# Altium integrated library Linear Technology PMIC-Switching Reg LT1074-LT8705.IntLib: 2252 symbols (part 102 of 124)
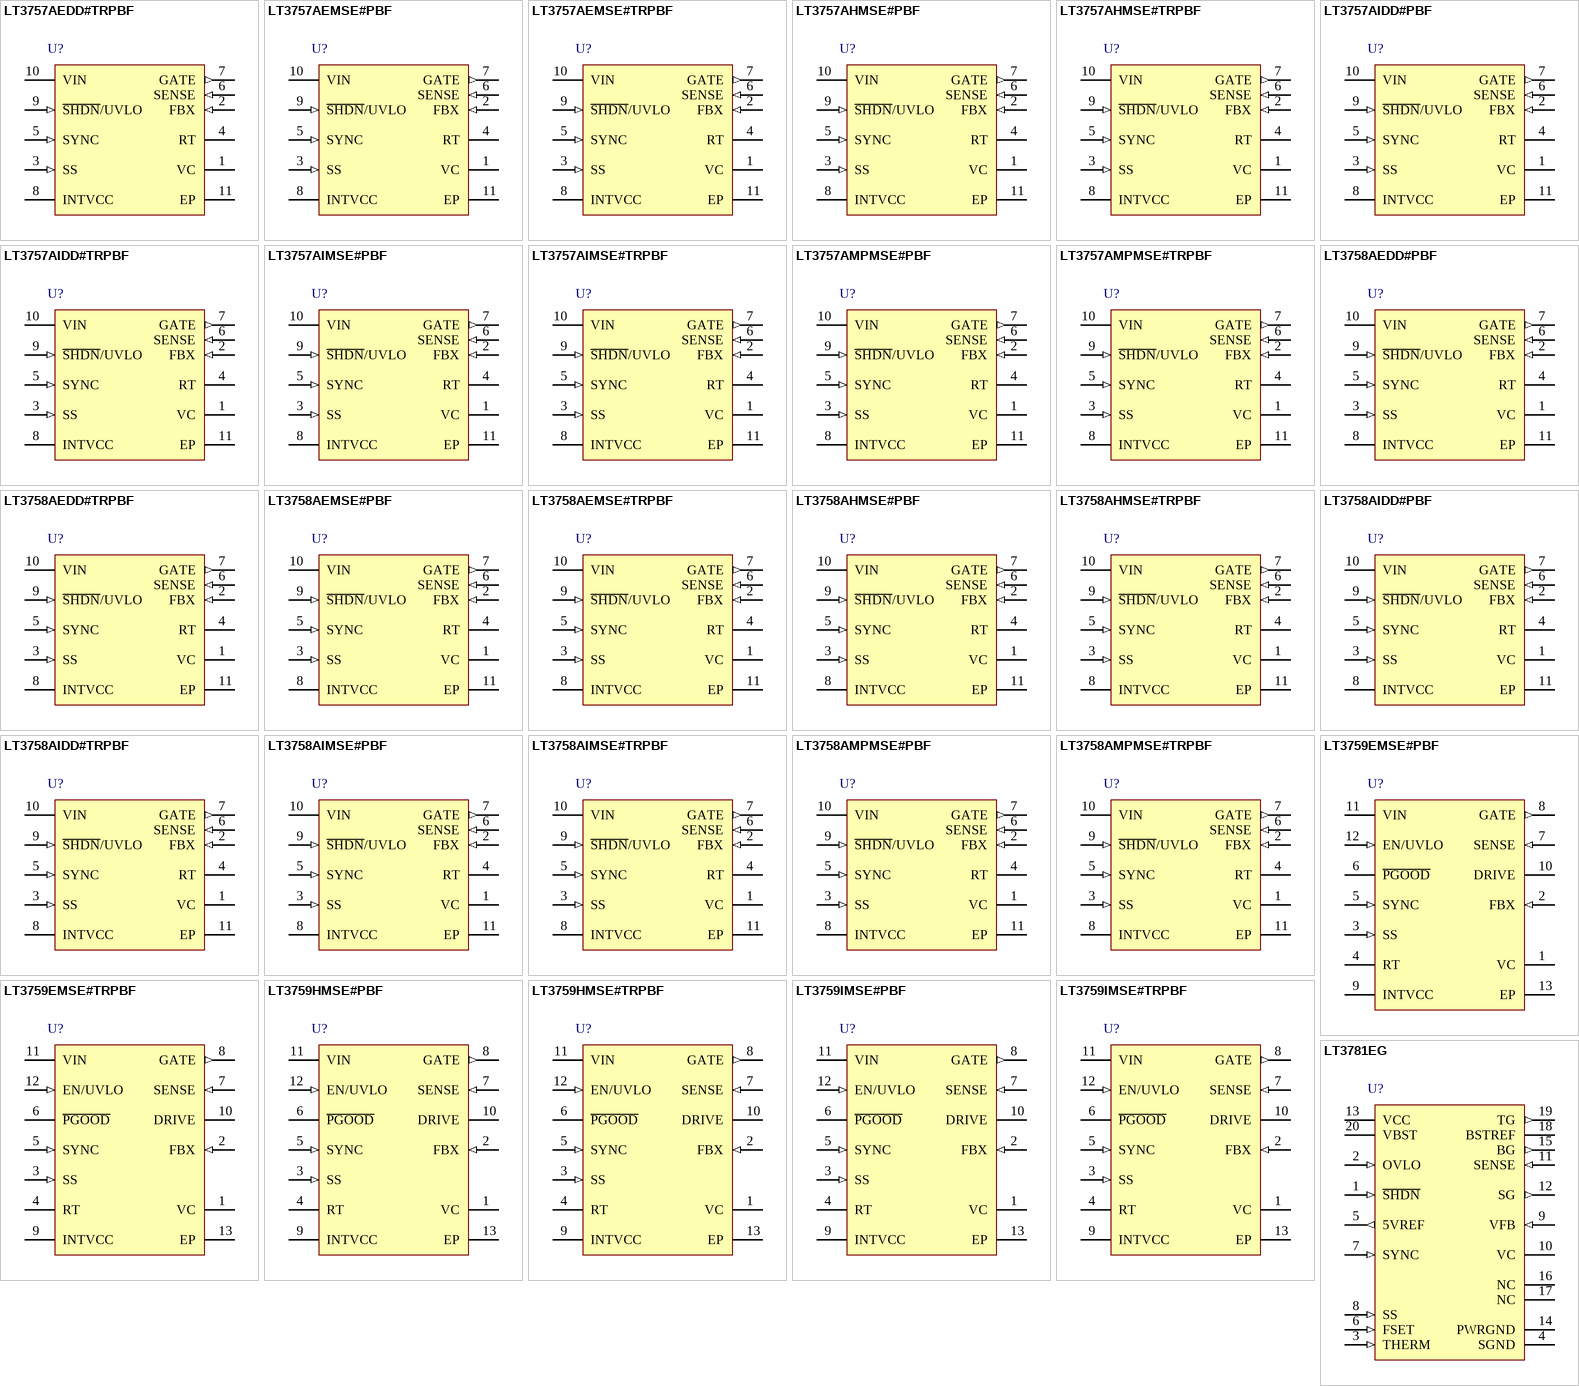
[diagram p172: symbols LT3757AEDD#TRPBF to LT3781EG]

## LT3759IMSE#PBF
designator U?
Wide Input Voltage Range Boost / SEPIC / Inverting Controller, 12-pin SOP (MSE-12-EDP), -40 to 125 degC, Pb-Free; Manufacturer: Linear Technology; PartNumber: LT3759IMSE#PBF; Number of Outputs: 1; PackageReference: MSE-12-EDP; PackageDescription: 12-Pin Plastic MSOP, Exposed Die Pad, Body 4.039 x 3 mm, Pitch 0.65 mm; Supplier 1: Digi-Key; Supplier Part Number 1: LT3759IMSE#PBF-ND; RoHS: TRUE
footprint LT-MSE-12-EDP_N (SOP, 12-Leads, Body 4.1x3.1mm, Pitch 0.65mm, Thermal Pad 2.95x1.76mm, IPC Medium Density)
footprint LT-MSE-12-EDP_L (SOP, 12-Leads, Body 4.1x3.1mm, Pitch 0.65mm, Thermal Pad 2.95x1.76mm, IPC High Density)
footprint LT-MSE-12-EDP_M (SOP, 12-Leads, Body 4.1x3.1mm, Pitch 0.65mm, Thermal Pad 2.95x1.76mm, IPC Low Density)
pins: 1 VC "Error Amplifier Compensation Pin. Used to stabilize the voltage loop with an external RC network.", 2 FBX (in) "Voltage Regulation Feedback Pin for Positive or Negative Outputs. Connect this pin to a resistor divider between the output and GND. FBX is the input of two error amplifiers-one configured to regulate a positive output; the (See Datasheet)", 3 SS (in) "Soft-Start Pin. This pin modulates compensation pin voltage (VC) clamp. The soft-start interval is set with an external capacitor. The pin has a 10uA (typical) pull-up current source to an internal 2.5V rail. The soft-start (See Datasheet)", 4 RT "Switching Frequency Adjustment Pin. Set the frequency using a resistor to GND. Do not leave the RT pin open.", 5 SYNC (in) "Frequency Synchronization Pin. Used to synchronize the internal oscillator to an outside clock. If this feature is used, an RT resistor should be chosen to program a switching frequency 20% slower than SYNC pulse frequency. (See Datasheet)", 6 ~{PGOOD} (oc) "Output Ready Status Pin. An open-collector pull down on P\G\O\O\D\ asserts when INTVCC is greater than 2.7V and the FBX voltage is within 5% (80mV if VFBX = 1.6V or 40mV if VFBX = -0.8V) of the regulation voltage.", 7 SENSE (in) "The Current Sense Input for the Control Loop. Kelvin connect this pin to the positive terminal of the switch current sense resistor in the source of the N-FET. The negative terminal of the current sense resistor should be (See Datasheet)", 8 GATE (out) "N-Channel FET Gate Driver Output. Switches between INTVCC and GND. Driven to GND when IC is shut down, during thermal lockout or when INTVCC is below undervoltage threshold.", 9 INTVCC (power) "Regulated Supply for Internal Loads and Gate Driver. Regulated to 4.75V if powered from DRIVE or regulated to 3.75V if powered from VIN. The INTVCC pin must be bypassed with a minimum of 4.7uF capacitor placed close to the (See Datasheet)", 10 DRIVE (power) "DRIVE LDO Supply Pin. This pin can be connected to either VIN or a quasi-regulated voltage supply such as a DC converter output. This pin must be bypassed with a minimum of 1uF capacitor placed close to the pin. Tie this pin (See Datasheet)", 11 VIN (power) "Supply Pin for Internal Leads and the VIN LDO Regulator of INTVCC. Must be locally bypassed with a minimum of 1uF capacitor placed close to this pin.", 12 EN/UVLO (in) "Shutdown and Undervoltage Detect Pin. An accurate 1.22V (nominal) falling threshold with externally programmable hysteresis detects when power is okay to enable switching. Rising hysteresis is generated by the external (See Datasheet)", 13 EP (power) "Exposed Pad. Solder the exposed pad directly to ground plane."

## LT3759IMSE#TRPBF
designator U?
Wide Input Voltage Range Boost / SEPIC / Inverting Controller, 12-pin SOP (MSE-12-EDP), -40 to 125 degC, Pb-Free, Tape and Reel; Manufacturer: Linear Technology; PartNumber: LT3759IMSE#TRPBF; Number of Outputs: 1; PackageReference: MSE-12-EDP; PackageDescription: 12-Pin Plastic MSOP, Exposed Die Pad, Body 4.039 x 3 mm, Pitch 0.65 mm; Supplier 1: Digi-Key; Supplier Part Number 1: LT3759IMSE#TRPBF-ND; RoHS: TRUE
footprint LT-MSE-12-EDP_N (SOP, 12-Leads, Body 4.1x3.1mm, Pitch 0.65mm, Thermal Pad 2.95x1.76mm, IPC Medium Density)
footprint LT-MSE-12-EDP_L (SOP, 12-Leads, Body 4.1x3.1mm, Pitch 0.65mm, Thermal Pad 2.95x1.76mm, IPC High Density)
footprint LT-MSE-12-EDP_M (SOP, 12-Leads, Body 4.1x3.1mm, Pitch 0.65mm, Thermal Pad 2.95x1.76mm, IPC Low Density)
pins: 1 VC "Error Amplifier Compensation Pin. Used to stabilize the voltage loop with an external RC network.", 2 FBX (in) "Voltage Regulation Feedback Pin for Positive or Negative Outputs. Connect this pin to a resistor divider between the output and GND. FBX is the input of two error amplifiers-one configured to regulate a positive output; the (See Datasheet)", 3 SS (in) "Soft-Start Pin. This pin modulates compensation pin voltage (VC) clamp. The soft-start interval is set with an external capacitor. The pin has a 10uA (typical) pull-up current source to an internal 2.5V rail. The soft-start (See Datasheet)", 4 RT "Switching Frequency Adjustment Pin. Set the frequency using a resistor to GND. Do not leave the RT pin open.", 5 SYNC (in) "Frequency Synchronization Pin. Used to synchronize the internal oscillator to an outside clock. If this feature is used, an RT resistor should be chosen to program a switching frequency 20% slower than SYNC pulse frequency. (See Datasheet)", 6 ~{PGOOD} (oc) "Output Ready Status Pin. An open-collector pull down on P\G\O\O\D\ asserts when INTVCC is greater than 2.7V and the FBX voltage is within 5% (80mV if VFBX = 1.6V or 40mV if VFBX = -0.8V) of the regulation voltage.", 7 SENSE (in) "The Current Sense Input for the Control Loop. Kelvin connect this pin to the positive terminal of the switch current sense resistor in the source of the N-FET. The negative terminal of the current sense resistor should be (See Datasheet)", 8 GATE (out) "N-Channel FET Gate Driver Output. Switches between INTVCC and GND. Driven to GND when IC is shut down, during thermal lockout or when INTVCC is below undervoltage threshold.", 9 INTVCC (power) "Regulated Supply for Internal Loads and Gate Driver. Regulated to 4.75V if powered from DRIVE or regulated to 3.75V if powered from VIN. The INTVCC pin must be bypassed with a minimum of 4.7uF capacitor placed close to the (See Datasheet)", 10 DRIVE (power) "DRIVE LDO Supply Pin. This pin can be connected to either VIN or a quasi-regulated voltage supply such as a DC converter output. This pin must be bypassed with a minimum of 1uF capacitor placed close to the pin. Tie this pin (See Datasheet)", 11 VIN (power) "Supply Pin for Internal Leads and the VIN LDO Regulator of INTVCC. Must be locally bypassed with a minimum of 1uF capacitor placed close to this pin.", 12 EN/UVLO (in) "Shutdown and Undervoltage Detect Pin. An accurate 1.22V (nominal) falling threshold with externally programmable hysteresis detects when power is okay to enable switching. Rising hysteresis is generated by the external (See Datasheet)", 13 EP (power) "Exposed Pad. Solder the exposed pad directly to ground plane."

## LT3781EG
designator U?
Bootstrap Start Dual Transistor Synchronous Forward Controller, 20-pin SOP (G-20), -40 to 85 degC; Manufacturer: Linear Technology; PartNumber: LT3781EG; Number of Outputs: 1; PackageReference: G-20; PackageDescription: 20-Pin Plastic SSOP, Body 7.2 x 5.3 mm, Pitch 0.65 mm; Supplier 1: Digi-Key; Supplier Part Number 1: LT3781EG-ND; RoHS: FALSE
footprint LT-G-20_N (SOP, 20-Leads, Body 7.2x5.3mm, Pitch 0.65mm, IPC Medium Density)
footprint LT-G-20_L (SOP, 20-Leads, Body 7.2x5.3mm, Pitch 0.65mm, IPC High Density)
footprint LT-G-20_M (SOP, 20-Leads, Body 7.2x5.3mm, Pitch 0.65mm, IPC Low Density)
pins: 1 ~{SHDN} (in) "Shutdown Pin. Pin voltages exceeding positive going threshold of 1.25V enables the LT3781. 150mV of input hysteresis resists mode switching instability.", 2 OVLO (in) "Overvoltage Shutdown Sense. Typically connected to input supply through a resistor divider. If pin voltage exceeds 1.25V, LT3781 switching function is disabled to protect boosted circuitry from exceeding absolute maximum (See Datasheet)", 3 THERM (in) "System Thermal Shutdown. Auxiliary shutdown pin that is typically used for system thermal protection. If pin voltage exceeds 1.25V, LT3781 switching function is disabled. 40mV of input hysteresis resists mode switching (See Datasheet)", 4 SGND (power) "Signal Ground Reference. Careful board layout techniques must be used to prevent corruption of signal ground reference. High-current switching paths must be oriented on the converter ground plane such that currents to/from (See Datasheet)", 5 5VREF (out) "5V Local Reference. Allows connection of external loads up to 20mA DC. Typically bypassed with 1uF ceramic capacitor to SGND. Reference output is current limit protected to a typical value of 45mA. If the load on the 5V (See Datasheet)", 6 FSET (in) "Oscillator Timing Pin. Connect a resistor (RFSET) from the 5VREF pin to this pin and a capacitor (CFSET) from this pin to ground.", 7 SYNC (in) "Oscillator Synchronization Input Pin with TTL-Level Compatible Input. The SYNC input signal (at the desired synchronized operating frequency) controls both the internal oscillator (running at twice the SYNC frequency) and (See Datasheet)", 8 SS (in) "Soft-Start. Connect a capacitor (CSS) from this pin to ground.", 9 VFB (in) "Error Amplifier Inverting Input. Typically connected to a resistor divider from the output and compensation components to the VC pin.", 10 VC "Error Amplifier Output. The LT3781 error amplifier is a low impedance output inverting gain stage. The amplifier has ample current source capability to allow easy integration of isolation optocouplers that require bias (See Datasheet)", 11 SENSE (in) "Current Sense Amplifier (CSA) Noninverting Input. Current is monitored via a ground referenced current sense resistor, typically in series withthe source of the bottom side switch FET. Internal current limit circuitry (See Datasheet)", 12 SG (out) "Synchronous Switch Output Driver. This pin can be connected directly to gate of synchronous switch if small FETs are used (CGATE < 5000pF), however, the use of a gate drive buffer is recommended for peak efficiencies.", 13 VCC (power) "IC Local Power Supply Input. Bypass with at a capacitor at least 10 times greater than C5VREF. LT3781 incorporates undervoltage lockout that disables switching functions if VCC is below 8.4V. The LT3781 supports operational (See Datasheet)", 14 PWRGND (power) "Output Driver Ground Reference. Connect through low impedance trace to VIN decoupling capacitor.", 15 BG (out) "Bottom Side Primary Switch/Forward Switch Output Driver. This pin can be connected directly to ngate(s) of primary bottom side and forward switches if small FETs are used (CGATE total < 5000pF), however, the use of a gate (See Datasheet)", 16 NC, 17 NC, 18 BSTREF (power) "VBST Supply Reference. Typically connects to source of topside external power FET switch.", 19 TG (out) "Topside (Boosted) Primary Output Driver. This pin can be connected directly to gate of primary topside switch if small FETs are used (CGATE < 5000pF), however, the use of a gate drive buffer is recommended for peak (See Datasheet)", 20 VBST (power) "Topside Primary Driver Bootstrapped Supply. This “boosted” supply rail is referenced to the BSTREF pin."

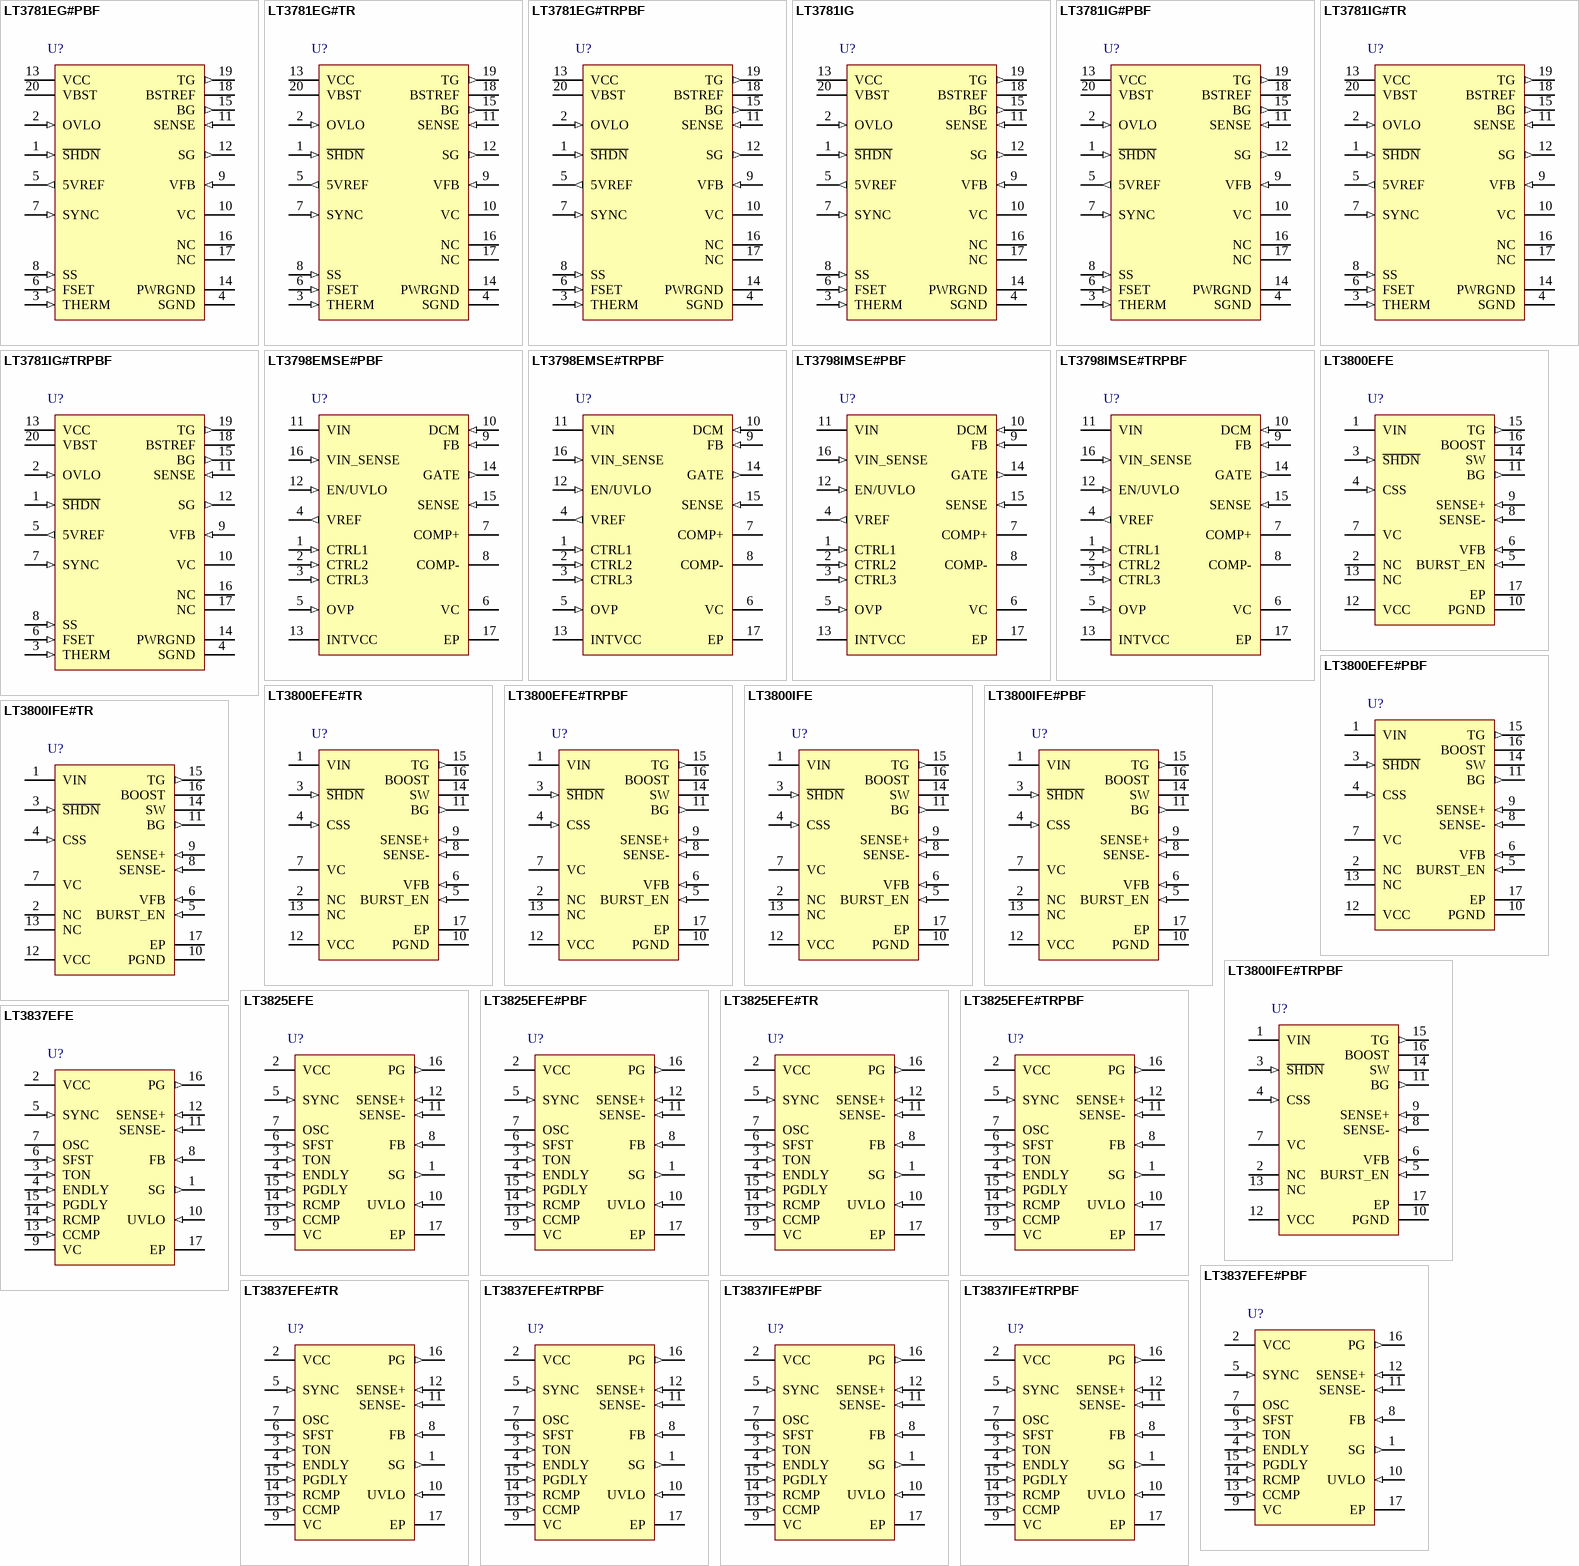
[diagram p59: symbols LT3781EG#PBF to LT3837IFE#TRPBF]

## LT3781EG#PBF
designator U?
Bootstrap Start Dual Transistor Synchronous Forward Controller, 20-pin SOP (G-20), -40 to 85 degC, Pb-Free; Manufacturer: Linear Technology; PartNumber: LT3781EG#PBF; Number of Outputs: 1; PackageReference: G-20; PackageDescription: 20-Pin Plastic SSOP, Body 7.2 x 5.3 mm, Pitch 0.65 mm; Supplier 1: Digi-Key; Supplier Part Number 1: LT3781EG#PBF-ND; RoHS: TRUE
footprint LT-G-20_N (SOP, 20-Leads, Body 7.2x5.3mm, Pitch 0.65mm, IPC Medium Density)
footprint LT-G-20_L (SOP, 20-Leads, Body 7.2x5.3mm, Pitch 0.65mm, IPC High Density)
footprint LT-G-20_M (SOP, 20-Leads, Body 7.2x5.3mm, Pitch 0.65mm, IPC Low Density)
pins: 1 ~{SHDN} (in) "Shutdown Pin. Pin voltages exceeding positive going threshold of 1.25V enables the LT3781. 150mV of input hysteresis resists mode switching instability.", 2 OVLO (in) "Overvoltage Shutdown Sense. Typically connected to input supply through a resistor divider. If pin voltage exceeds 1.25V, LT3781 switching function is disabled to protect boosted circuitry from exceeding absolute maximum (See Datasheet)", 3 THERM (in) "System Thermal Shutdown. Auxiliary shutdown pin that is typically used for system thermal protection. If pin voltage exceeds 1.25V, LT3781 switching function is disabled. 40mV of input hysteresis resists mode switching (See Datasheet)", 4 SGND (power) "Signal Ground Reference. Careful board layout techniques must be used to prevent corruption of signal ground reference. High-current switching paths must be oriented on the converter ground plane such that currents to/from (See Datasheet)", 5 5VREF (out) "5V Local Reference. Allows connection of external loads up to 20mA DC. Typically bypassed with 1uF ceramic capacitor to SGND. Reference output is current limit protected to a typical value of 45mA. If the load on the 5V (See Datasheet)", 6 FSET (in) "Oscillator Timing Pin. Connect a resistor (RFSET) from the 5VREF pin to this pin and a capacitor (CFSET) from this pin to ground.", 7 SYNC (in) "Oscillator Synchronization Input Pin with TTL-Level Compatible Input. The SYNC input signal (at the desired synchronized operating frequency) controls both the internal oscillator (running at twice the SYNC frequency) and (See Datasheet)", 8 SS (in) "Soft-Start. Connect a capacitor (CSS) from this pin to ground.", 9 VFB (in) "Error Amplifier Inverting Input. Typically connected to a resistor divider from the output and compensation components to the VC pin.", 10 VC "Error Amplifier Output. The LT3781 error amplifier is a low impedance output inverting gain stage. The amplifier has ample current source capability to allow easy integration of isolation optocouplers that require bias (See Datasheet)", 11 SENSE (in) "Current Sense Amplifier (CSA) Noninverting Input. Current is monitored via a ground referenced current sense resistor, typically in series withthe source of the bottom side switch FET. Internal current limit circuitry (See Datasheet)", 12 SG (out) "Synchronous Switch Output Driver. This pin can be connected directly to gate of synchronous switch if small FETs are used (CGATE < 5000pF), however, the use of a gate drive buffer is recommended for peak efficiencies.", 13 VCC (power) "IC Local Power Supply Input. Bypass with at a capacitor at least 10 times greater than C5VREF. LT3781 incorporates undervoltage lockout that disables switching functions if VCC is below 8.4V. The LT3781 supports operational (See Datasheet)", 14 PWRGND (power) "Output Driver Ground Reference. Connect through low impedance trace to VIN decoupling capacitor.", 15 BG (out) "Bottom Side Primary Switch/Forward Switch Output Driver. This pin can be connected directly to ngate(s) of primary bottom side and forward switches if small FETs are used (CGATE total < 5000pF), however, the use of a gate (See Datasheet)", 16 NC, 17 NC, 18 BSTREF (power) "VBST Supply Reference. Typically connects to source of topside external power FET switch.", 19 TG (out) "Topside (Boosted) Primary Output Driver. This pin can be connected directly to gate of primary topside switch if small FETs are used (CGATE < 5000pF), however, the use of a gate drive buffer is recommended for peak (See Datasheet)", 20 VBST (power) "Topside Primary Driver Bootstrapped Supply. This “boosted” supply rail is referenced to the BSTREF pin."

## LT3781EG#TR
designator U?
Bootstrap Start Dual Transistor Synchronous Forward Controller, 20-pin SOP (G-20), -40 to 85 degC, Tape and Reel; Manufacturer: Linear Technology; PartNumber: LT3781EG#TR; Number of Outputs: 1; PackageReference: G-20; PackageDescription: 20-Pin Plastic SSOP, Body 7.2 x 5.3 mm, Pitch 0.65 mm; Supplier 1: Digi-Key; Supplier Part Number 1: LT3781EG#TR-ND; RoHS: FALSE
footprint LT-G-20_N (SOP, 20-Leads, Body 7.2x5.3mm, Pitch 0.65mm, IPC Medium Density)
footprint LT-G-20_L (SOP, 20-Leads, Body 7.2x5.3mm, Pitch 0.65mm, IPC High Density)
footprint LT-G-20_M (SOP, 20-Leads, Body 7.2x5.3mm, Pitch 0.65mm, IPC Low Density)
pins: 1 ~{SHDN} (in) "Shutdown Pin. Pin voltages exceeding positive going threshold of 1.25V enables the LT3781. 150mV of input hysteresis resists mode switching instability.", 2 OVLO (in) "Overvoltage Shutdown Sense. Typically connected to input supply through a resistor divider. If pin voltage exceeds 1.25V, LT3781 switching function is disabled to protect boosted circuitry from exceeding absolute maximum (See Datasheet)", 3 THERM (in) "System Thermal Shutdown. Auxiliary shutdown pin that is typically used for system thermal protection. If pin voltage exceeds 1.25V, LT3781 switching function is disabled. 40mV of input hysteresis resists mode switching (See Datasheet)", 4 SGND (power) "Signal Ground Reference. Careful board layout techniques must be used to prevent corruption of signal ground reference. High-current switching paths must be oriented on the converter ground plane such that currents to/from (See Datasheet)", 5 5VREF (out) "5V Local Reference. Allows connection of external loads up to 20mA DC. Typically bypassed with 1uF ceramic capacitor to SGND. Reference output is current limit protected to a typical value of 45mA. If the load on the 5V (See Datasheet)", 6 FSET (in) "Oscillator Timing Pin. Connect a resistor (RFSET) from the 5VREF pin to this pin and a capacitor (CFSET) from this pin to ground.", 7 SYNC (in) "Oscillator Synchronization Input Pin with TTL-Level Compatible Input. The SYNC input signal (at the desired synchronized operating frequency) controls both the internal oscillator (running at twice the SYNC frequency) and (See Datasheet)", 8 SS (in) "Soft-Start. Connect a capacitor (CSS) from this pin to ground.", 9 VFB (in) "Error Amplifier Inverting Input. Typically connected to a resistor divider from the output and compensation components to the VC pin.", 10 VC "Error Amplifier Output. The LT3781 error amplifier is a low impedance output inverting gain stage. The amplifier has ample current source capability to allow easy integration of isolation optocouplers that require bias (See Datasheet)", 11 SENSE (in) "Current Sense Amplifier (CSA) Noninverting Input. Current is monitored via a ground referenced current sense resistor, typically in series withthe source of the bottom side switch FET. Internal current limit circuitry (See Datasheet)", 12 SG (out) "Synchronous Switch Output Driver. This pin can be connected directly to gate of synchronous switch if small FETs are used (CGATE < 5000pF), however, the use of a gate drive buffer is recommended for peak efficiencies.", 13 VCC (power) "IC Local Power Supply Input. Bypass with at a capacitor at least 10 times greater than C5VREF. LT3781 incorporates undervoltage lockout that disables switching functions if VCC is below 8.4V. The LT3781 supports operational (See Datasheet)", 14 PWRGND (power) "Output Driver Ground Reference. Connect through low impedance trace to VIN decoupling capacitor.", 15 BG (out) "Bottom Side Primary Switch/Forward Switch Output Driver. This pin can be connected directly to ngate(s) of primary bottom side and forward switches if small FETs are used (CGATE total < 5000pF), however, the use of a gate (See Datasheet)", 16 NC, 17 NC, 18 BSTREF (power) "VBST Supply Reference. Typically connects to source of topside external power FET switch.", 19 TG (out) "Topside (Boosted) Primary Output Driver. This pin can be connected directly to gate of primary topside switch if small FETs are used (CGATE < 5000pF), however, the use of a gate drive buffer is recommended for peak (See Datasheet)", 20 VBST (power) "Topside Primary Driver Bootstrapped Supply. This “boosted” supply rail is referenced to the BSTREF pin."

## LT3781EG#TRPBF
designator U?
Bootstrap Start Dual Transistor Synchronous Forward Controller, 20-pin SOP (G-20), -40 to 85 degC, Pb-Free, Tape and Reel; Manufacturer: Linear Technology; PartNumber: LT3781EG#TRPBF; Number of Outputs: 1; PackageReference: G-20; PackageDescription: 20-Pin Plastic SSOP, Body 7.2 x 5.3 mm, Pitch 0.65 mm; Supplier 1: Digi-Key; Supplier Part Number 1: LT3781EG#TRPBF-ND; RoHS: TRUE
footprint LT-G-20_N (SOP, 20-Leads, Body 7.2x5.3mm, Pitch 0.65mm, IPC Medium Density)
footprint LT-G-20_L (SOP, 20-Leads, Body 7.2x5.3mm, Pitch 0.65mm, IPC High Density)
footprint LT-G-20_M (SOP, 20-Leads, Body 7.2x5.3mm, Pitch 0.65mm, IPC Low Density)
pins: 1 ~{SHDN} (in) "Shutdown Pin. Pin voltages exceeding positive going threshold of 1.25V enables the LT3781. 150mV of input hysteresis resists mode switching instability.", 2 OVLO (in) "Overvoltage Shutdown Sense. Typically connected to input supply through a resistor divider. If pin voltage exceeds 1.25V, LT3781 switching function is disabled to protect boosted circuitry from exceeding absolute maximum (See Datasheet)", 3 THERM (in) "System Thermal Shutdown. Auxiliary shutdown pin that is typically used for system thermal protection. If pin voltage exceeds 1.25V, LT3781 switching function is disabled. 40mV of input hysteresis resists mode switching (See Datasheet)", 4 SGND (power) "Signal Ground Reference. Careful board layout techniques must be used to prevent corruption of signal ground reference. High-current switching paths must be oriented on the converter ground plane such that currents to/from (See Datasheet)", 5 5VREF (out) "5V Local Reference. Allows connection of external loads up to 20mA DC. Typically bypassed with 1uF ceramic capacitor to SGND. Reference output is current limit protected to a typical value of 45mA. If the load on the 5V (See Datasheet)", 6 FSET (in) "Oscillator Timing Pin. Connect a resistor (RFSET) from the 5VREF pin to this pin and a capacitor (CFSET) from this pin to ground.", 7 SYNC (in) "Oscillator Synchronization Input Pin with TTL-Level Compatible Input. The SYNC input signal (at the desired synchronized operating frequency) controls both the internal oscillator (running at twice the SYNC frequency) and (See Datasheet)", 8 SS (in) "Soft-Start. Connect a capacitor (CSS) from this pin to ground.", 9 VFB (in) "Error Amplifier Inverting Input. Typically connected to a resistor divider from the output and compensation components to the VC pin.", 10 VC "Error Amplifier Output. The LT3781 error amplifier is a low impedance output inverting gain stage. The amplifier has ample current source capability to allow easy integration of isolation optocouplers that require bias (See Datasheet)", 11 SENSE (in) "Current Sense Amplifier (CSA) Noninverting Input. Current is monitored via a ground referenced current sense resistor, typically in series withthe source of the bottom side switch FET. Internal current limit circuitry (See Datasheet)", 12 SG (out) "Synchronous Switch Output Driver. This pin can be connected directly to gate of synchronous switch if small FETs are used (CGATE < 5000pF), however, the use of a gate drive buffer is recommended for peak efficiencies.", 13 VCC (power) "IC Local Power Supply Input. Bypass with at a capacitor at least 10 times greater than C5VREF. LT3781 incorporates undervoltage lockout that disables switching functions if VCC is below 8.4V. The LT3781 supports operational (See Datasheet)", 14 PWRGND (power) "Output Driver Ground Reference. Connect through low impedance trace to VIN decoupling capacitor.", 15 BG (out) "Bottom Side Primary Switch/Forward Switch Output Driver. This pin can be connected directly to ngate(s) of primary bottom side and forward switches if small FETs are used (CGATE total < 5000pF), however, the use of a gate (See Datasheet)", 16 NC, 17 NC, 18 BSTREF (power) "VBST Supply Reference. Typically connects to source of topside external power FET switch.", 19 TG (out) "Topside (Boosted) Primary Output Driver. This pin can be connected directly to gate of primary topside switch if small FETs are used (CGATE < 5000pF), however, the use of a gate drive buffer is recommended for peak (See Datasheet)", 20 VBST (power) "Topside Primary Driver Bootstrapped Supply. This “boosted” supply rail is referenced to the BSTREF pin."

## LT3781IG
designator U?
Bootstrap Start Dual Transistor Synchronous Forward Controller, 20-pin SOP (G-20), -40 to 85 degC; Manufacturer: Linear Technology; PartNumber: LT3781IG; Number of Outputs: 1; PackageReference: G-20; PackageDescription: 20-Pin Plastic SSOP, Body 7.2 x 5.3 mm, Pitch 0.65 mm; Supplier 1: Digi-Key; Supplier Part Number 1: LT3781IG-ND; RoHS: FALSE
footprint LT-G-20_N (SOP, 20-Leads, Body 7.2x5.3mm, Pitch 0.65mm, IPC Medium Density)
footprint LT-G-20_L (SOP, 20-Leads, Body 7.2x5.3mm, Pitch 0.65mm, IPC High Density)
footprint LT-G-20_M (SOP, 20-Leads, Body 7.2x5.3mm, Pitch 0.65mm, IPC Low Density)
pins: 1 ~{SHDN} (in) "Shutdown Pin. Pin voltages exceeding positive going threshold of 1.25V enables the LT3781. 150mV of input hysteresis resists mode switching instability.", 2 OVLO (in) "Overvoltage Shutdown Sense. Typically connected to input supply through a resistor divider. If pin voltage exceeds 1.25V, LT3781 switching function is disabled to protect boosted circuitry from exceeding absolute maximum (See Datasheet)", 3 THERM (in) "System Thermal Shutdown. Auxiliary shutdown pin that is typically used for system thermal protection. If pin voltage exceeds 1.25V, LT3781 switching function is disabled. 40mV of input hysteresis resists mode switching (See Datasheet)", 4 SGND (power) "Signal Ground Reference. Careful board layout techniques must be used to prevent corruption of signal ground reference. High-current switching paths must be oriented on the converter ground plane such that currents to/from (See Datasheet)", 5 5VREF (out) "5V Local Reference. Allows connection of external loads up to 20mA DC. Typically bypassed with 1uF ceramic capacitor to SGND. Reference output is current limit protected to a typical value of 45mA. If the load on the 5V (See Datasheet)", 6 FSET (in) "Oscillator Timing Pin. Connect a resistor (RFSET) from the 5VREF pin to this pin and a capacitor (CFSET) from this pin to ground.", 7 SYNC (in) "Oscillator Synchronization Input Pin with TTL-Level Compatible Input. The SYNC input signal (at the desired synchronized operating frequency) controls both the internal oscillator (running at twice the SYNC frequency) and (See Datasheet)", 8 SS (in) "Soft-Start. Connect a capacitor (CSS) from this pin to ground.", 9 VFB (in) "Error Amplifier Inverting Input. Typically connected to a resistor divider from the output and compensation components to the VC pin.", 10 VC "Error Amplifier Output. The LT3781 error amplifier is a low impedance output inverting gain stage. The amplifier has ample current source capability to allow easy integration of isolation optocouplers that require bias (See Datasheet)", 11 SENSE (in) "Current Sense Amplifier (CSA) Noninverting Input. Current is monitored via a ground referenced current sense resistor, typically in series withthe source of the bottom side switch FET. Internal current limit circuitry (See Datasheet)", 12 SG (out) "Synchronous Switch Output Driver. This pin can be connected directly to gate of synchronous switch if small FETs are used (CGATE < 5000pF), however, the use of a gate drive buffer is recommended for peak efficiencies.", 13 VCC (power) "IC Local Power Supply Input. Bypass with at a capacitor at least 10 times greater than C5VREF. LT3781 incorporates undervoltage lockout that disables switching functions if VCC is below 8.4V. The LT3781 supports operational (See Datasheet)", 14 PWRGND (power) "Output Driver Ground Reference. Connect through low impedance trace to VIN decoupling capacitor.", 15 BG (out) "Bottom Side Primary Switch/Forward Switch Output Driver. This pin can be connected directly to ngate(s) of primary bottom side and forward switches if small FETs are used (CGATE total < 5000pF), however, the use of a gate (See Datasheet)", 16 NC, 17 NC, 18 BSTREF (power) "VBST Supply Reference. Typically connects to source of topside external power FET switch.", 19 TG (out) "Topside (Boosted) Primary Output Driver. This pin can be connected directly to gate of primary topside switch if small FETs are used (CGATE < 5000pF), however, the use of a gate drive buffer is recommended for peak (See Datasheet)", 20 VBST (power) "Topside Primary Driver Bootstrapped Supply. This “boosted” supply rail is referenced to the BSTREF pin."

## LT3781IG#PBF
designator U?
Bootstrap Start Dual Transistor Synchronous Forward Controller, 20-pin SOP (G-20), -40 to 85 degC, Pb-Free; Manufacturer: Linear Technology; PartNumber: LT3781IG#PBF; Number of Outputs: 1; PackageReference: G-20; PackageDescription: 20-Pin Plastic SSOP, Body 7.2 x 5.3 mm, Pitch 0.65 mm; Supplier 1: Digi-Key; Supplier Part Number 1: LT3781IG#PBF-ND; RoHS: TRUE
footprint LT-G-20_N (SOP, 20-Leads, Body 7.2x5.3mm, Pitch 0.65mm, IPC Medium Density)
footprint LT-G-20_L (SOP, 20-Leads, Body 7.2x5.3mm, Pitch 0.65mm, IPC High Density)
footprint LT-G-20_M (SOP, 20-Leads, Body 7.2x5.3mm, Pitch 0.65mm, IPC Low Density)
pins: 1 ~{SHDN} (in) "Shutdown Pin. Pin voltages exceeding positive going threshold of 1.25V enables the LT3781. 150mV of input hysteresis resists mode switching instability.", 2 OVLO (in) "Overvoltage Shutdown Sense. Typically connected to input supply through a resistor divider. If pin voltage exceeds 1.25V, LT3781 switching function is disabled to protect boosted circuitry from exceeding absolute maximum (See Datasheet)", 3 THERM (in) "System Thermal Shutdown. Auxiliary shutdown pin that is typically used for system thermal protection. If pin voltage exceeds 1.25V, LT3781 switching function is disabled. 40mV of input hysteresis resists mode switching (See Datasheet)", 4 SGND (power) "Signal Ground Reference. Careful board layout techniques must be used to prevent corruption of signal ground reference. High-current switching paths must be oriented on the converter ground plane such that currents to/from (See Datasheet)", 5 5VREF (out) "5V Local Reference. Allows connection of external loads up to 20mA DC. Typically bypassed with 1uF ceramic capacitor to SGND. Reference output is current limit protected to a typical value of 45mA. If the load on the 5V (See Datasheet)", 6 FSET (in) "Oscillator Timing Pin. Connect a resistor (RFSET) from the 5VREF pin to this pin and a capacitor (CFSET) from this pin to ground.", 7 SYNC (in) "Oscillator Synchronization Input Pin with TTL-Level Compatible Input. The SYNC input signal (at the desired synchronized operating frequency) controls both the internal oscillator (running at twice the SYNC frequency) and (See Datasheet)", 8 SS (in) "Soft-Start. Connect a capacitor (CSS) from this pin to ground.", 9 VFB (in) "Error Amplifier Inverting Input. Typically connected to a resistor divider from the output and compensation components to the VC pin.", 10 VC "Error Amplifier Output. The LT3781 error amplifier is a low impedance output inverting gain stage. The amplifier has ample current source capability to allow easy integration of isolation optocouplers that require bias (See Datasheet)", 11 SENSE (in) "Current Sense Amplifier (CSA) Noninverting Input. Current is monitored via a ground referenced current sense resistor, typically in series withthe source of the bottom side switch FET. Internal current limit circuitry (See Datasheet)", 12 SG (out) "Synchronous Switch Output Driver. This pin can be connected directly to gate of synchronous switch if small FETs are used (CGATE < 5000pF), however, the use of a gate drive buffer is recommended for peak efficiencies.", 13 VCC (power) "IC Local Power Supply Input. Bypass with at a capacitor at least 10 times greater than C5VREF. LT3781 incorporates undervoltage lockout that disables switching functions if VCC is below 8.4V. The LT3781 supports operational (See Datasheet)", 14 PWRGND (power) "Output Driver Ground Reference. Connect through low impedance trace to VIN decoupling capacitor.", 15 BG (out) "Bottom Side Primary Switch/Forward Switch Output Driver. This pin can be connected directly to ngate(s) of primary bottom side and forward switches if small FETs are used (CGATE total < 5000pF), however, the use of a gate (See Datasheet)", 16 NC, 17 NC, 18 BSTREF (power) "VBST Supply Reference. Typically connects to source of topside external power FET switch.", 19 TG (out) "Topside (Boosted) Primary Output Driver. This pin can be connected directly to gate of primary topside switch if small FETs are used (CGATE < 5000pF), however, the use of a gate drive buffer is recommended for peak (See Datasheet)", 20 VBST (power) "Topside Primary Driver Bootstrapped Supply. This “boosted” supply rail is referenced to the BSTREF pin."

## LT3781IG#TR
designator U?
Bootstrap Start Dual Transistor Synchronous Forward Controller, 20-pin SOP (G-20), -40 to 85 degC, Tape and Reel; Manufacturer: Linear Technology; PartNumber: LT3781IG#TR; Number of Outputs: 1; PackageReference: G-20; PackageDescription: 20-Pin Plastic SSOP, Body 7.2 x 5.3 mm, Pitch 0.65 mm; Supplier 1: Digi-Key; Supplier Part Number 1: LT3781IG#TR-ND; RoHS: FALSE
footprint LT-G-20_N (SOP, 20-Leads, Body 7.2x5.3mm, Pitch 0.65mm, IPC Medium Density)
footprint LT-G-20_L (SOP, 20-Leads, Body 7.2x5.3mm, Pitch 0.65mm, IPC High Density)
footprint LT-G-20_M (SOP, 20-Leads, Body 7.2x5.3mm, Pitch 0.65mm, IPC Low Density)
pins: 1 ~{SHDN} (in) "Shutdown Pin. Pin voltages exceeding positive going threshold of 1.25V enables the LT3781. 150mV of input hysteresis resists mode switching instability.", 2 OVLO (in) "Overvoltage Shutdown Sense. Typically connected to input supply through a resistor divider. If pin voltage exceeds 1.25V, LT3781 switching function is disabled to protect boosted circuitry from exceeding absolute maximum (See Datasheet)", 3 THERM (in) "System Thermal Shutdown. Auxiliary shutdown pin that is typically used for system thermal protection. If pin voltage exceeds 1.25V, LT3781 switching function is disabled. 40mV of input hysteresis resists mode switching (See Datasheet)", 4 SGND (power) "Signal Ground Reference. Careful board layout techniques must be used to prevent corruption of signal ground reference. High-current switching paths must be oriented on the converter ground plane such that currents to/from (See Datasheet)", 5 5VREF (out) "5V Local Reference. Allows connection of external loads up to 20mA DC. Typically bypassed with 1uF ceramic capacitor to SGND. Reference output is current limit protected to a typical value of 45mA. If the load on the 5V (See Datasheet)", 6 FSET (in) "Oscillator Timing Pin. Connect a resistor (RFSET) from the 5VREF pin to this pin and a capacitor (CFSET) from this pin to ground.", 7 SYNC (in) "Oscillator Synchronization Input Pin with TTL-Level Compatible Input. The SYNC input signal (at the desired synchronized operating frequency) controls both the internal oscillator (running at twice the SYNC frequency) and (See Datasheet)", 8 SS (in) "Soft-Start. Connect a capacitor (CSS) from this pin to ground.", 9 VFB (in) "Error Amplifier Inverting Input. Typically connected to a resistor divider from the output and compensation components to the VC pin.", 10 VC "Error Amplifier Output. The LT3781 error amplifier is a low impedance output inverting gain stage. The amplifier has ample current source capability to allow easy integration of isolation optocouplers that require bias (See Datasheet)", 11 SENSE (in) "Current Sense Amplifier (CSA) Noninverting Input. Current is monitored via a ground referenced current sense resistor, typically in series withthe source of the bottom side switch FET. Internal current limit circuitry (See Datasheet)", 12 SG (out) "Synchronous Switch Output Driver. This pin can be connected directly to gate of synchronous switch if small FETs are used (CGATE < 5000pF), however, the use of a gate drive buffer is recommended for peak efficiencies.", 13 VCC (power) "IC Local Power Supply Input. Bypass with at a capacitor at least 10 times greater than C5VREF. LT3781 incorporates undervoltage lockout that disables switching functions if VCC is below 8.4V. The LT3781 supports operational (See Datasheet)", 14 PWRGND (power) "Output Driver Ground Reference. Connect through low impedance trace to VIN decoupling capacitor.", 15 BG (out) "Bottom Side Primary Switch/Forward Switch Output Driver. This pin can be connected directly to ngate(s) of primary bottom side and forward switches if small FETs are used (CGATE total < 5000pF), however, the use of a gate (See Datasheet)", 16 NC, 17 NC, 18 BSTREF (power) "VBST Supply Reference. Typically connects to source of topside external power FET switch.", 19 TG (out) "Topside (Boosted) Primary Output Driver. This pin can be connected directly to gate of primary topside switch if small FETs are used (CGATE < 5000pF), however, the use of a gate drive buffer is recommended for peak (See Datasheet)", 20 VBST (power) "Topside Primary Driver Bootstrapped Supply. This “boosted” supply rail is referenced to the BSTREF pin."

## LT3781IG#TRPBF
designator U?
Bootstrap Start Dual Transistor Synchronous Forward Controller, 20-pin SOP (G-20), -40 to 85 degC, Pb-Free, Tape and Reel; Manufacturer: Linear Technology; PartNumber: LT3781IG#TRPBF; Number of Outputs: 1; PackageReference: G-20; PackageDescription: 20-Pin Plastic SSOP, Body 7.2 x 5.3 mm, Pitch 0.65 mm; Supplier 1: Digi-Key; Supplier Part Number 1: LT3781IG#TRPBF-ND; RoHS: TRUE
footprint LT-G-20_N (SOP, 20-Leads, Body 7.2x5.3mm, Pitch 0.65mm, IPC Medium Density)
footprint LT-G-20_L (SOP, 20-Leads, Body 7.2x5.3mm, Pitch 0.65mm, IPC High Density)
footprint LT-G-20_M (SOP, 20-Leads, Body 7.2x5.3mm, Pitch 0.65mm, IPC Low Density)
pins: 1 ~{SHDN} (in) "Shutdown Pin. Pin voltages exceeding positive going threshold of 1.25V enables the LT3781. 150mV of input hysteresis resists mode switching instability.", 2 OVLO (in) "Overvoltage Shutdown Sense. Typically connected to input supply through a resistor divider. If pin voltage exceeds 1.25V, LT3781 switching function is disabled to protect boosted circuitry from exceeding absolute maximum (See Datasheet)", 3 THERM (in) "System Thermal Shutdown. Auxiliary shutdown pin that is typically used for system thermal protection. If pin voltage exceeds 1.25V, LT3781 switching function is disabled. 40mV of input hysteresis resists mode switching (See Datasheet)", 4 SGND (power) "Signal Ground Reference. Careful board layout techniques must be used to prevent corruption of signal ground reference. High-current switching paths must be oriented on the converter ground plane such that currents to/from (See Datasheet)", 5 5VREF (out) "5V Local Reference. Allows connection of external loads up to 20mA DC. Typically bypassed with 1uF ceramic capacitor to SGND. Reference output is current limit protected to a typical value of 45mA. If the load on the 5V (See Datasheet)", 6 FSET (in) "Oscillator Timing Pin. Connect a resistor (RFSET) from the 5VREF pin to this pin and a capacitor (CFSET) from this pin to ground.", 7 SYNC (in) "Oscillator Synchronization Input Pin with TTL-Level Compatible Input. The SYNC input signal (at the desired synchronized operating frequency) controls both the internal oscillator (running at twice the SYNC frequency) and (See Datasheet)", 8 SS (in) "Soft-Start. Connect a capacitor (CSS) from this pin to ground.", 9 VFB (in) "Error Amplifier Inverting Input. Typically connected to a resistor divider from the output and compensation components to the VC pin.", 10 VC "Error Amplifier Output. The LT3781 error amplifier is a low impedance output inverting gain stage. The amplifier has ample current source capability to allow easy integration of isolation optocouplers that require bias (See Datasheet)", 11 SENSE (in) "Current Sense Amplifier (CSA) Noninverting Input. Current is monitored via a ground referenced current sense resistor, typically in series withthe source of the bottom side switch FET. Internal current limit circuitry (See Datasheet)", 12 SG (out) "Synchronous Switch Output Driver. This pin can be connected directly to gate of synchronous switch if small FETs are used (CGATE < 5000pF), however, the use of a gate drive buffer is recommended for peak efficiencies.", 13 VCC (power) "IC Local Power Supply Input. Bypass with at a capacitor at least 10 times greater than C5VREF. LT3781 incorporates undervoltage lockout that disables switching functions if VCC is below 8.4V. The LT3781 supports operational (See Datasheet)", 14 PWRGND (power) "Output Driver Ground Reference. Connect through low impedance trace to VIN decoupling capacitor.", 15 BG (out) "Bottom Side Primary Switch/Forward Switch Output Driver. This pin can be connected directly to ngate(s) of primary bottom side and forward switches if small FETs are used (CGATE total < 5000pF), however, the use of a gate (See Datasheet)", 16 NC, 17 NC, 18 BSTREF (power) "VBST Supply Reference. Typically connects to source of topside external power FET switch.", 19 TG (out) "Topside (Boosted) Primary Output Driver. This pin can be connected directly to gate of primary topside switch if small FETs are used (CGATE < 5000pF), however, the use of a gate drive buffer is recommended for peak (See Datasheet)", 20 VBST (power) "Topside Primary Driver Bootstrapped Supply. This “boosted” supply rail is referenced to the BSTREF pin."

## LT3798EMSE#PBF
designator U?
Isolated No Opto-Coupler Flyback Controller with Active PFC, 16-pin SOP (MSE-16-EDP), -40 to 125 degC, Pb-Free; Manufacturer: Linear Technology; PartNumber: LT3798EMSE#PBF; Number of Outputs: 1; PackageReference: MSE-16; PackageDescription: 16-Pin Plastic MSOP, Exposed Die Pad, Body 4.039 x 3 mm, Pitch 0.5 mm; Supplier 1: Digi-Key; Supplier Part Number 1: LT3798EMSE#PBF-ND; RoHS: TRUE
footprint LT-MSE-16-EDP_N (SOP, 16-Leads, Body 4.1x3.1mm, Pitch 0.5mm, Thermal Pad 2.95x1.76mm, IPC Medium Density)
footprint LT-MSE-16-EDP_L (SOP, 16-Leads, Body 4.1x3.1mm, Pitch 0.5mm, Thermal Pad 2.95x1.76mm, IPC High Density)
footprint LT-MSE-16-EDP_M (SOP, 16-Leads, Body 4.1x3.1mm, Pitch 0.5mm, Thermal Pad 2.95x1.76mm, IPC Low Density)
pins: 1 CTRL1 (in) "Current Output Adjustment Pins. These pins control the output current. The lowest value out of the three CTRL inputs is compared to negative input of the operational amplifier.", 2 CTRL2 (in) "Current Output Adjustment Pins. These pins control the output current. The lowest value out of the three CTRL inputs is compared to negative input of the operational amplifier.", 3 CTRL3 (in) "Current Output Adjustment Pins. These pins control the output current. The lowest value out of the three CTRL inputs is compared to negative input of the operational amplifier.", 4 VREF (out) "Voltage Reference Output Pin. Typically 2V. This pin drives a resistor divider for the CTRL pin, either for analog dimming or for temperature limit/compensation of output load. Can supply up to 200uA.", 5 OVP (in) "Overvoltage Protection. This pin accepts a DC voltage to compare to the sample and hold’s voltage output information. When output voltage information is above the OVP, the part divides the minimum switching frequency by 8(See Datasheet)", 6 VC "Compensation Pin for Internal Error Amplifier. Connect a series RC from this pin to ground to compensate the switching regulator. A 100pF capacitor in parallel helps eliminate noise.", 7 COMP+ "Compensation Pins for Internal Error Amplifier. Connect a capacitor between these two pins to compensate the internal feedback loop.", 8 COMP- "Compensation Pins for Internal Error Amplifier. Connect a capacitor between these two pins to compensate the internal feedback loop.", 9 FB (in) "Voltage Loop Feedback Pin. FB is used to regulate the output voltage by sampling the third winding. If the converter is used in current mode, the FB pin will normally be at a voltage level lower than 1.25V, and will reach (See Datasheet)", 10 DCM (in) "Discontinuous Conduction Mode Detection Pin. Connect a capacitor and resistor in series with this pin to the third winding.", 11 VIN (power) "Input Voltage. This pin supplies current to the internal start-up circuitry and to the INTVCC LDO. This pin must be locally bypassed with a capacitor. A 42V shunt regulator is internally connected to this pin.", 12 EN/UVLO (in) "Enable/Undervoltage Lockout. A resistor divider connected to VIN is tied to this pin to program the minimum input voltage at which the LT3798 will turn on. When below 1.25V, the part will draw 60uA with most of the internal (See Datasheet)", 13 INTVCC (power) "Regulated Supply for Internal Loads and GATE Driver. Supplied from VIN and regulates to 10V (typical). INTVCC must be bypassed with a 4.7uF capacitor placed close to the pin.", 14 GATE (out) "N-Channel FET Gate Driver Output. Switches between INTVCC and GND. Driven to GND during shutdown state and stays high during low voltage states.", 15 SENSE (in) "The Current Sense Input for the Control Loop. Kelvin connect this pin to the positive terminal of the switch current sense resistor, RSENSE, in the source of the NFET. The negative terminal of the current sense resistor (See Datasheet)", 16 VIN_SENSE (in) "Line Voltage Sense Pin. The pin is used for sensing the AC line voltage to perform power factor correction. Connect a resistor in series with the line voltage to this pin. If no PFC is needed, connect this pin to INTVCC with (See Datasheet)", 17 EP (power) "Ground. The exposed pad of the package provides both electrical contact to ground and good thermal contact to the printed circuit board. The exposed pad must be soldered to the circuit board for proper operation."